# Altium schematic symbol library dip14.SchLib: 1 symbol
Pins are listed as number, name and electrical type; pins without a type are passive.

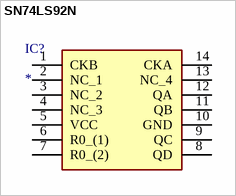
[diagram p0: symbol SN74LS92N]

## SN74LS92N
designator IC?
Integrated Circuit; Manufacturer_Name: Texas Instruments; Manufacturer_Part_Number: SN74LS92N; Datasheet Link: http://www.ti.com/lit/gpn/sn74ls92; Height: 5.08mm; Mouser Part Number: 595-SN74LS92N; Mouser Price/Stock: https://www.mouser.co.uk/ProductDetail/Texas-Instruments/SN74LS92N?qs=UG%2F8xqv%2F6WcRLlC4vw0bYA%3D%3D; Arrow Part Number: SN74LS92N; Arrow Price/Stock: https://www.arrow.com/en/products/sn74ls92n/texas-instruments?utm_currency=USD&region=nac
footprint DIP794W53P254L1930H508Q14N
pins: 1 CKB, 2 NC_1, 3 NC_2, 4 NC_3, 5 VCC, 6 R0_(1), 7 R0_(2), 8 QD, 9 QC, 10 GND, 11 QB, 12 QA, 13 NC_4, 14 CKA